# Altium schematic symbol library 1210 Cap.Schlib: 1 symbol
Pins are listed as number, name and electrical type; pins without a type are passive.

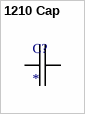
[diagram p0: symbol 1210 Cap]

## 1210 Cap
designator C?
Capacitor, Ceramic, 0.1uF, 16VDC, 20-% Tol, 80+% Tol, Y5V-TC Code, -82, 22%-TC
pins: 1, 2